# EAGLE library part TL5626* (library 0-tlv5626)
2.7-V TO 5.5-V LOW-POWER DUAL 8-BIT DIGITAL-TO-ANALOG CONVERTER WITH INTERNAL REFERENCE AND POWER DOWN ￼The TLV5626 is a dual 8-bit voltage output DAC with a flexible 3-wire serial interface.The serial interface allows glueless interface to TMS320 and SPI, QSPI, and Microwire serial ports. It is programmed with a 16-bit serial string containing 2 control and 8 data bits. The resistor string output voltage is buffered by a x2 gain rail-to-rail output buffer. The buffer features a Class AB output stage to improve stability and reduce settling time. The programmable settling time of the DAC allows the designer to optimize speed versus power dissipation. With its on-chip programmable precision voltage reference, the TLV5626 simplifies overall system design. Because of its ability to source up to 1 mA, the reference can also be used as a system reference. Implemented with a CMOS process, the device is designed for single supply operation from 2.7 V to 5.5 V. It is available in an 8-pin SOIC package to reduce board space in standard commercial and industrial temperature ranges.
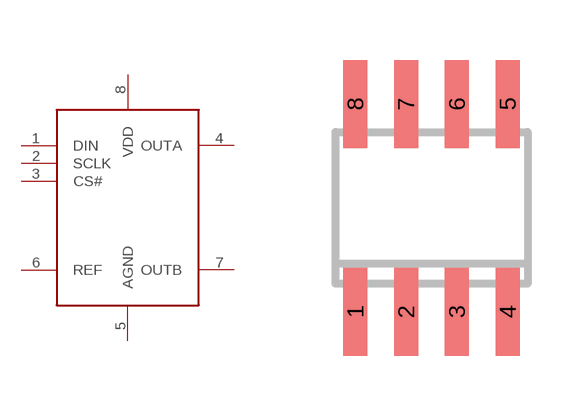
[diagram p0: symbol with the pads of SO08; footprint SO08]

Designator prefix IC

## TL5626D  [SO08]
1  DIN
2  SCLK
3  CS#
4  OUTA
5  AGND  pwr
6  REF
7  OUTB
8  VDD  pwr

## Footprint SO08 (pad centres in mm)
SMALL OUTLINE INTEGRATED CIRCUIT body 3.9 mm/JEDEC MS-012AA
smd 0.6 x 2.2: 1 -1.905,-2.6; 2 -0.635,-2.6; 3 0.635,-2.6; 4 1.905,-2.6; 5 1.905,2.6; 6 0.635,2.6; 7 -0.635,2.6; 8 -1.905,2.6